# EAGLE library part 1734366_C (library 000001)
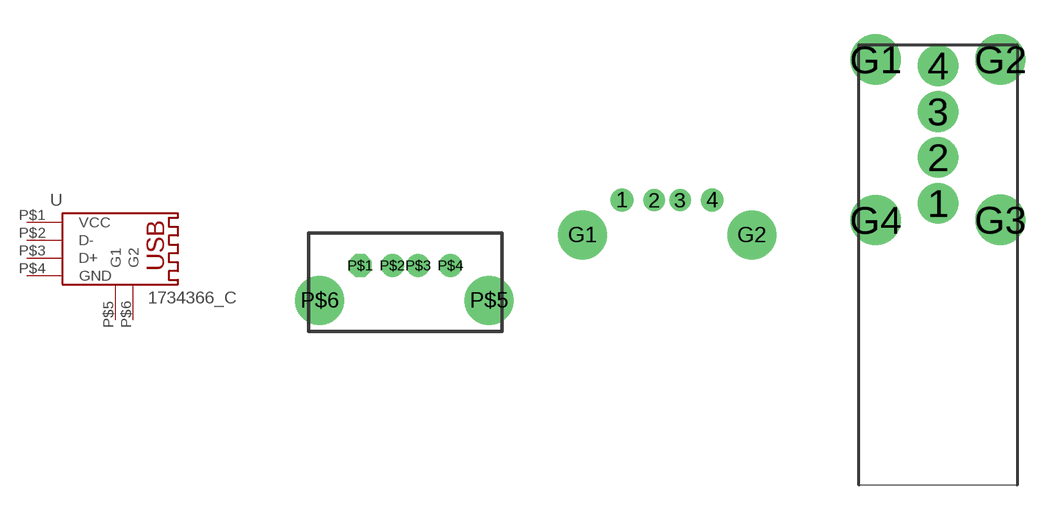
[diagram p123: symbol with the pads of 1734366_C; footprints 1734366_C, A-USB]

Designator prefix -

## 1734366_C  [1734366_C]
P$1  VCC
P$2  D-
P$3  D+
P$4  GND
P$5  G1
P$6  G2

## 1734366_CA-E  [A-USB]
1  VCC
2  D-
3  D+
4  GND
G1  G1
G2  G2

## Footprint 1734366_C (pad centres in mm)
drill 0.5 pad 1.778 round: 1 16.82,7.79; 4 23.82,7.79; P$2 -1,2.71; P$3 1,2.71; P$4 3.5,2.71
drill 0.5 pad 1.676 round: 2 19.32,7.79; 3 21.32,7.79
drill 0.5 pad 3.81 round: G1 13.75,5.08; G2 26.89,5.08; P$5 6.5,0; P$6 -6.64,0
drill 0.5 pad 1.778 octagon: P$1 -3.5,2.71

## Footprint A-USB (pad centres in mm)
drill 0.5 pad 1.778 round: 1 0,0.73; 2 0,2.73; 3 0,4.73; 4 0,6.73
drill 0.5 pad 2.184 round: G1 -2.72,7; G2 2.72,7; G3 2.72,0.01; G4 -2.72,0